# Altium footprint library SOIC-8-E.PcbLib: 2 footprints
Each footprint in its own frame and in the unit in brackets; x right, y up, seen from the top. Pads: shape width x height; smd on the part's side, far side on the other; paste and mask are expansions set on the pad; w line width, h text height; cw(c..) or ccw(c..) is an arc to the next point about the centre after c.
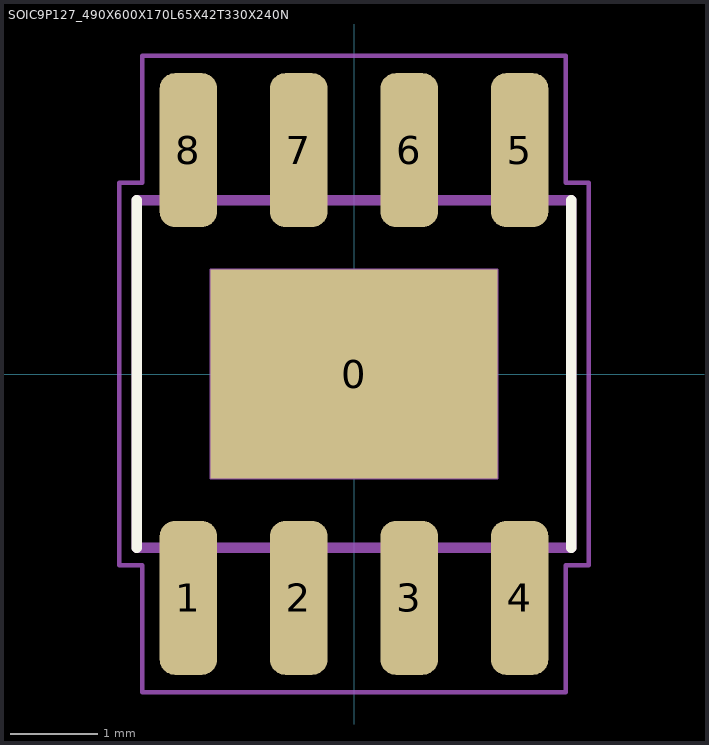
[diagram p0: the footprints below, top view; thin cyan lines are the x and y axes]

## PCBComponent_1 [mm]

## SOIC9P127_490X600X170L65X42T330X240N [mm] "Small Outline IC (SOIC with Tab), 1.27 mm pitch; 8 pin, 4.90 mm L X 3.90 mm W X 1.70 mm H body"
height 1.7
pads (9):
  rect 3.3x2.4 smd paste-3.3 mask+0: 0(0,0)
  rrect52% 0.66x1.77 smd: 1(-1.905,-2.575) 2(-0.635,-2.575) 3(0.635,-2.575) 4(1.905,-2.575) 5(1.905,2.575) 6(0.635,2.575) 7(-0.635,2.575) 8(-1.905,2.575)
Top Overlay:
  lines w0.12: -2.5,-2 -2.5,2 ; 2.5,-2 2.5,2
Top Paste:
  region: -0.135,0.135 -1.385,0.135 -1.385,0.935 -0.135,0.935
  region: -0.135,-0.935 -1.385,-0.935 -1.385,-0.135 -0.135,-0.135
  region: 1.385,0.135 0.135,0.135 0.135,0.935 1.385,0.935
  region: 1.385,-0.935 0.135,-0.935 0.135,-0.135 1.385,-0.135
Mechanical 11:
  lines w0.12: -2.5,-2 2.5,-2 2.5,2 -2.5,2 -2.5,-2
Mechanical 12:
  lines w0.025: -2.45,-1.95 2.45,-1.95 2.45,1.95 -2.45,1.95 -2.45,-1.95 ; -2.115,-3 -2.115,-2.345 -1.695,-2.345 -1.695,-3 -2.115,-3 ; -2.115,2.345 -2.115,3 -1.695,3 -1.695,2.345 -2.115,2.345 ; -1.65,-1.2 -1.65,1.2 1.65,1.2 1.65,-1.2 -1.65,-1.2 ; -0.845,-3 -0.845,-2.345 -0.425,-2.345 -0.425,-3 -0.845,-3 ; -0.845,2.345 -0.845,3 -0.425,3 -0.425,2.345 -0.845,2.345 ; 0.425,-3 0.425,-2.345 0.845,-2.345 0.845,-3 0.425,-3 ; 0.425,2.345 0.425,3 0.845,3 0.845,2.345 0.425,2.345 ; 1.695,-3 1.695,-2.345 2.115,-2.345 2.115,-3 1.695,-3 ; 1.695,2.345 1.695,3 2.115,3 2.115,2.345 1.695,2.345
Mechanical 15:
  circle w0.05: c0,0 r0.25
  lines w0.05: -0.35,0 0.35,0 ; 0,-0.35 0,0.35 ; -2.7,-2.2 -2.435,-2.2 -2.435,-3.66 2.435,-3.66 2.435,-2.2 2.7,-2.2 2.7,2.2 2.435,2.2 2.435,3.66 -2.435,3.66 -2.435,2.2 -2.7,2.2 -2.7,-2.2
Mechanical 16:
  text ".Designator" at 0,0 h1.2